# Altium footprint library SOD2512X100N.PcbLib: 1 footprints
Each footprint in its own frame and in the unit in brackets; x right, y up, seen from the top. Pads: shape width x height; smd on the part's side, far side on the other; paste and mask are expansions set on the pad; w line width, h text height; cw(c..) or ccw(c..) is an arc to the next point about the centre after c.
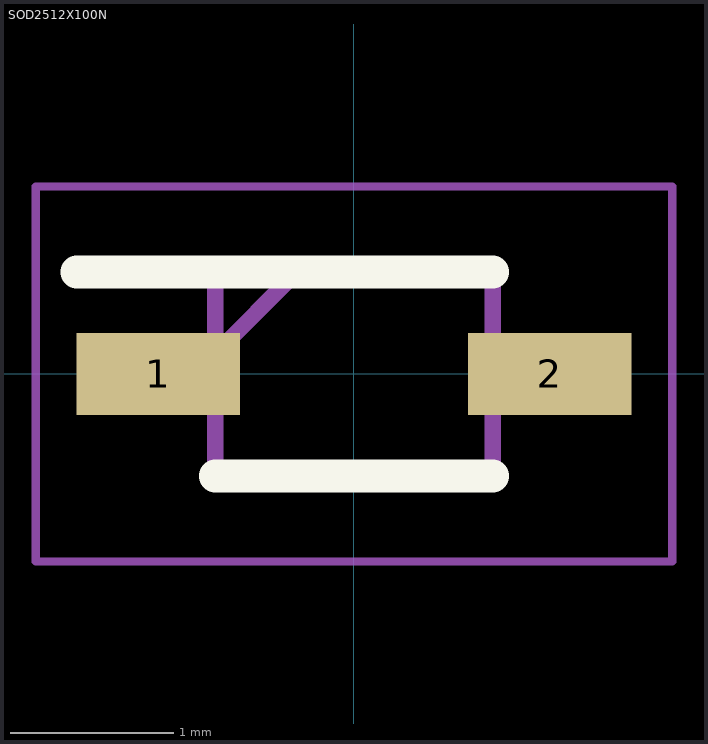
[diagram p0: the footprint, top view; thin cyan lines are the x and y axes]

## SOD2512X100N [mm]
pads (2):
  rect 1x0.5 smd: 1(-1.2,0) 2(1.2,0)
Top Overlay:
  lines w0.2: -1.7,0.625 0.85,0.625 ; -0.85,-0.625 0.85,-0.625
Mechanical 15:
  lines w0.1: -0.85,0.125 -0.35,0.625 ; -0.85,-0.625 0.85,-0.625 0.85,0.625 -0.85,0.625 -0.85,-0.625
Mechanical 20:
  lines w0.05: -1.95,-1.15 1.95,-1.15 1.95,1.15 -1.95,1.15 -1.95,-1.15